# Altium footprint library JP.PcbLib: 182 footprints (part 8 of 12)
Each footprint in its own frame and in the unit in brackets; x right, y up, seen from the top. Pads: shape width x height; smd on the part's side, far side on the other; paste and mask are expansions set on the pad; w line width, h text height; cw(c..) or ccw(c..) is an arc to the next point about the centre after c.
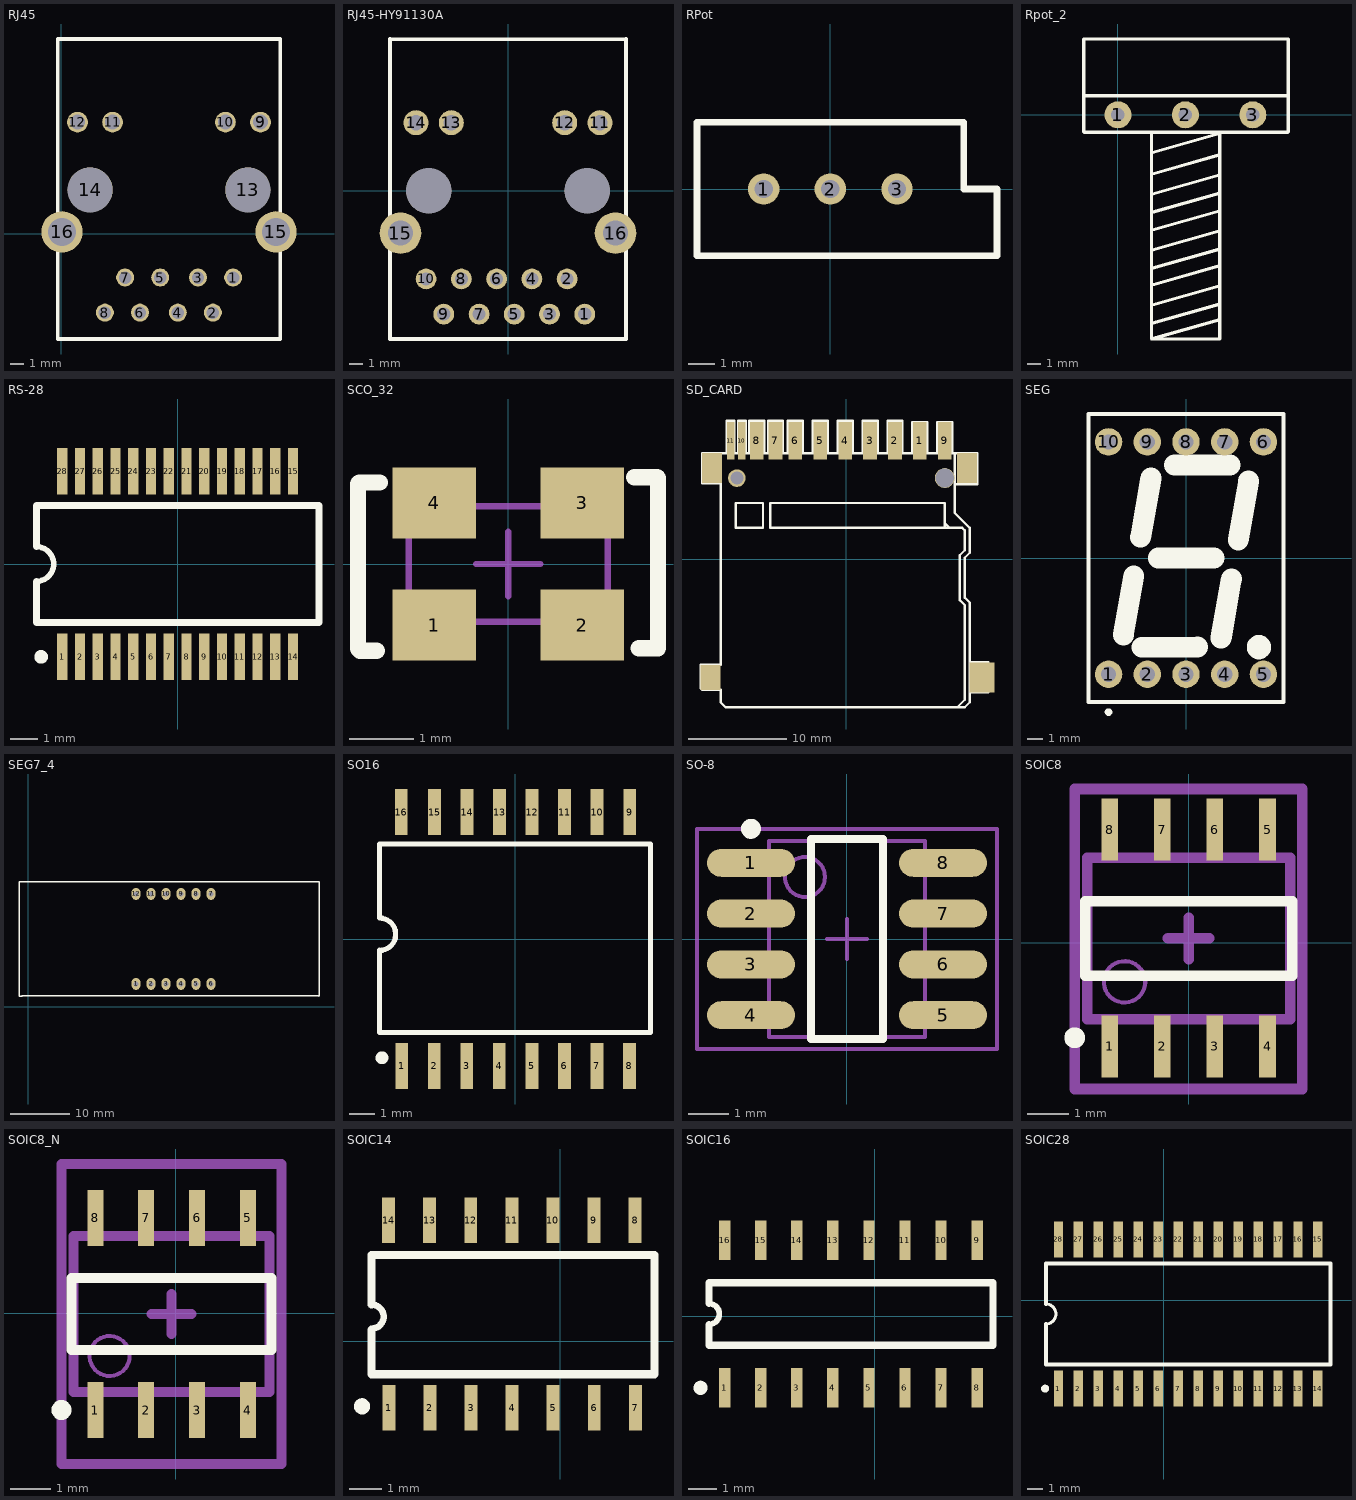
[diagram p7: the footprints below, top view; thin cyan lines are the x and y axes]

## RJ45 [mm]
pads (16):
  round 1.3 hole 0.9: 1(12.438,-3.155) 2(10.978,-5.695) 3(9.898,-3.155) 4(8.438,-5.695) 5(7.158,-3.155) 6(5.698,-5.695) 7(4.618,-3.155) 8(3.158,-5.695)
  round 1.5 hole 1.1: 9(14.423,8.095) 10(11.883,8.095) 11(3.713,8.095) 12(1.173,8.095)
  round 3.251 hole 3.251: 13(13.513,3.195) 14(2.083,3.195)
  round 3 hole 2: 15(15.543,0.145) 16(0.053,0.145)
Top Overlay:
  lines w0.254: -0.252,-7.605 -0.252,14.115 15.848,14.115 15.848,-7.605 -0.252,-7.605

## RJ45-HY91130A [mm]
pads (18):
  round 1.5 hole 0.95: 1(5.53,-8.89) 2(4.26,-6.35) 3(2.99,-8.89) 4(1.72,-6.35) 5(0.45,-8.89) 6(-0.82,-6.35) 7(-2.08,-8.89) 8(-3.36,-6.35) 9(-4.63,-8.89) 10(-5.9,-6.35)
  round 1.8 hole 1.1: 11(6.625,4.9) 12(4.085,4.9) 13(-4.085,4.9) 14(-6.625,4.9)
  round 3 hole 1.8: 15(-7.745,-3.05) 16(7.745,-3.05)
  round 3.255 hole 3.255: ""(-5.715,0) ""(5.715,0)
Top Overlay:
  lines w0.254: -8.5,10.92 8.388,10.92 ; -8.5,10.93 -8.5,-10.68 8.388,-10.68 ; 8.5,-10.68 8.5,10.93

## RPot [mm] "Potentiometer; 3 Leads"
pads (3):
  round 1.2 hole 0.7: 1(-2.54,0) 2(0,0) 3(2.54,0)
Top Overlay:
  lines w0.254: -5.08,-2.54 -5.08,2.54 5.08,2.54 5.08,0 6.35,0 6.35,-2.54 -5.08,-2.54

## Rpot_2 [mm]
pads (3):
  round 2 hole 1: 1(0,0) 2(5,0) 3(10,0)
Top Overlay:
  lines w0.25: -2.47,1.4 12.51,1.4 ; 2.53,-15.46 7.507,-14.048 ; 2.53,-11.39 7.507,-9.978 ; 2.535,-16.617 7.53,-15.2 ; 2.535,-12.617 7.53,-11.2 ; 2.535,-8.547 7.53,-7.13 ; 2.546,-14.106 7.512,-12.697 ; 2.546,-10.036 7.512,-8.627 ; 2.55,-7.23 7.527,-5.818 ; 2.555,-4.387 7.55,-2.97 ; 2.563,-2.804 7.52,-1.397 ; 2.566,-5.876 7.532,-4.467 ; 7.52,-16.63 2.51,-16.63 2.49,-16.61 2.49,-1.32 2.52,-1.29 7.55,-1.29 7.55,-16.6 ; 12.59,5.62 -2.54,5.62 -2.54,-1.26 -2.51,-1.29 12.61,-1.29 ; 12.63,-1.28 12.63,5.61

## RS-28 [mm]
pads (28):
  rect 0.38x1.7 smd: 1(-4.225,-3.4) 2(-3.575,-3.4) 3(-2.925,-3.4) 4(-2.275,-3.4) 5(-1.625,-3.4) 6(-0.975,-3.4) 7(-0.325,-3.4) 8(0.325,-3.4) 9(0.975,-3.4) 10(1.625,-3.4) 11(2.275,-3.4) 12(2.925,-3.4) 13(3.575,-3.4) 14(4.225,-3.4) 15(4.225,3.4) 16(3.575,3.4) 17(2.925,3.4) 18(2.275,3.4) 19(1.625,3.4) 20(0.975,3.4) 21(0.325,3.4) 22(-0.325,3.4) 23(-0.975,3.4) 24(-1.625,3.4) 25(-2.275,3.4) 26(-2.925,3.4) 27(-3.575,3.4) 28(-4.225,3.4)
Top Overlay:
  circle w0.25: c-5,-3.4 r0.125
  lines w0.2: -5.175,-0.635 ccw(c-5.175,0) -5.175,0.635
  lines w0.254: -5.175,-0.635 -5.175,-2.15 5.175,-2.15 5.175,2.15 -5.175,2.15 -5.175,0.635

## SCO_32 [mm]
height 2
pads (4):
  rect 1.3x1.1 smd: 1(-1.15,-0.95) 2(1.15,-0.95) 3(1.15,0.95) 4(-1.15,0.95)
Top Overlay:
  lines w0.254: -2.05,-1.35 -2.31,-1.35 -2.34,-1.32 -2.34,1.25 -2.32,1.27 -2,1.27 ; 1.96,1.35 2.32,1.35 2.33,1.34 2.33,-1.31 2.03,-1.31
Mechanical 13:
  lines w0.1: -1.55,-0.9 1.55,-0.9 1.55,0.9 -1.55,0.9 -1.55,-0.9
Mechanical 15:
  lines w0.1: -0.5,0 0.5,0 ; 0,-0.5 0,0.5
3D body: height 1.45, standoff 0, extent -1.55,-0.9 1.55,0.9

## SD_CARD [mil]
pads (17):
  rect 55x150 smd: 1(295.19,475.42) 2(195.19,475.42) 3(95.19,475.42) 4(-4.81,475.42) 5(-104.81,475.42) 6(-204.81,475.42) 7(-284.81,475.42) 8(-359.81,475.42) 9(395.19,475.42)
  rect 30x150 smd: 10(-419.81,475.42) 11(-464.81,475.42)
  rect 80x100 smd: ""(-544.81,-474.58)
  rect 80x120 smd: ""(-539.81,365.42) ""(485.19,365.42)
  round 70.87 hole 52: ""(-439.81,325.42)
  round 80 hole 75: ""(395.19,325.42)
  rect 100x120 smd: ""(544.81,-475.42)
Top Overlay:
  lines w9.84: -479.81,425.42 -479.81,555.42 -449.81,555.42 -449.81,425.42 -504.81,425.42 -579.81,425.42 -579.81,305.42 -504.81,305.42 -504.81,-424.58 -584.81,-424.58 -584.81,-519.58 -579.81,-524.58 -504.81,-524.58 -504.81,-574.58 -484.81,-594.58 -474.81,-594.58 475.19,-594.58 495.19,-574.58 495.19,-174.58 475.19,-154.58 475.19,5.42 495.19,25.42 495.19,35.42 495.19,105.42 495.19,125.42 435.19,185.42 435.19,415.42 435.19,425.42 ; -454.81,425.42 435.19,425.42 ; -434.81,425.42 -434.81,555.42 -404.81,555.42 -404.81,425.42 ; -389.81,430.42 -389.81,555.42 -329.81,555.42 -329.81,430.42 ; -354.81,125.42 -334.81,125.42 -334.81,225.42 -444.81,225.42 -444.81,125.42 -344.81,125.42 ; -314.81,430.42 -314.81,555.42 -254.81,555.42 -254.81,430.42 ; -234.81,430.42 -234.81,555.42 -174.81,555.42 -174.81,430.42 ; -134.81,430.42 -134.81,555.42 -74.81,555.42 -74.81,430.42 ; -34.81,430.42 -34.81,555.42 25.19,555.42 25.19,430.42 ; 65.19,430.42 65.19,555.42 125.19,555.42 125.19,430.42 ; 165.19,430.42 165.19,555.42 225.19,555.42 225.19,430.42 ; 265.19,425.42 265.19,550.42 325.19,550.42 325.19,425.42 ; 365.19,425.42 365.19,550.42 425.19,550.42 425.19,425.42 ; 395.19,145.42 415.19,125.42 ; 435.19,300.42 525.19,300.42 525.19,425.42 435.19,425.42 ; 445.19,-594.58 475.19,-564.58 475.19,-194.58 475.19,-184.58 455.19,-164.58 455.19,15.42 475.19,35.42 475.19,115.42 465.19,125.42 395.19,125.42 ; 495.19,-534.58 570.19,-534.58 ; 495.19,-414.58 570.19,-414.58 ; 395.19,125.42 -304.81,125.42 -304.81,225.42 395.19,225.42 395.19,135.42 395.19,125.42

## SEG [mm] "LED, 7-Segment Display, 14.2 mm, RHD; 10 Leads; Row Space 15.24 mm; Pitch 2.54 mm"
height 8.25
pads (10):
  round 1.8 hole 1: 1(-5.08,-7.62) 2(-2.54,-7.62) 3(0,-7.62) 4(2.54,-7.62) 5(5.08,-7.62) 6(5.08,7.62) 7(2.54,7.62) 8(0,7.62) 9(-2.54,7.62) 10(-5.08,7.62)
Top Overlay:
  circle w1: c4.784,-5.842 r0.296
  circle w0.25: c-5.08,-10.1 r0.125
  lines w0.254: -6.4,-9.45 6.4,-9.45 6.4,9.45 -6.4,9.45 -6.4,-9.45
  lines w1.37: -4.108,-5.054 -3.425,-1.17 ; -2.974,1.368 -2.293,5.255 ; -2.888,-5.845 0.762,-5.842 ; -1.821,0 1.828,0 ; -0.762,6.096 2.887,6.096 ; 2.295,-5.256 2.98,-1.371 ; 3.427,1.169 4.11,5.058

## SEG7_4 [mil]
height 220.08
pads (12):
  oval 59.06x78.74 hole 32: 1(720,151) 2(820,151) 3(920,151) 4(1020,151) 5(1120,151) 6(1220,151) 7(1220,751) 8(1120,751) 9(1020,751) 10(920,751) 11(820,751) 12(720,751)
Top Overlay:
  lines w9.84: -60,70 -41,70 -40,71 380,71 1500,71 1920,71 1939,71 1940,70 1940,830 1939,831 1920,831 1500,831 380,831 -40,831 -59,831 -60,830 -60,70
Top Solder:
  lines w9.84: -45,70 -45,830 ; 1920,70 1920,830

## SO16 [mm]
pads (16):
  rect 0.5x1.8 smd: 1(-4.438,-4.959) 2(-3.168,-4.959) 3(-1.898,-4.959) 4(-0.628,-4.959) 5(0.642,-4.959) 6(1.912,-4.959) 7(3.182,-4.959) 8(4.452,-4.959) 9(4.462,4.959) 10(3.192,4.959) 11(1.922,4.959) 12(0.652,4.959) 13(-0.618,4.959) 14(-1.888,4.959) 15(-3.158,4.959) 16(-4.462,4.959)
Top Overlay:
  circle w0.25: c-5.213,-4.639 r0.125
  lines w0.2: -5.308,-0.449 ccw(c-5.308,0.184) -5.308,0.818 ; -5.308,-0.439 -5.308,-3.656 5.272,-3.656 5.272,3.705 -5.248,3.705 ; -5.308,0.841 -5.308,3.705
3D body: height 1, standoff 0, extent -5.463,-4.889 5.372,3.805

## SO-8 [mm]
pads (8):
  oval 2.2x0.7 smd: 1(-2.4,1.905) 2(-2.4,0.635) 3(-2.4,-0.635) 4(-2.4,-1.905) 5(2.4,-1.905) 6(2.4,-0.635) 7(2.4,0.635) 8(2.4,1.905)
Top Overlay:
  circle w0.25: c-2.4,2.755 r0.125
  lines w0.2: -0.9,-2.5 -0.9,2.5 0.9,2.5 0.9,-2.5 -0.9,-2.5
Mechanical 13:
  circle w0.1: c-1.05,1.55 r0.5
  lines w0.1: -1.95,-2.45 -1.95,2.45 1.95,2.45 1.95,-2.45 -1.95,-2.45
Mechanical 15:
  lines w0.1: -0.5,0 0.5,0 ; 0,-0.5 0,0.5 ; -3.75,-2.75 -3.75,2.75 3.75,2.75 3.75,-2.75 -3.75,-2.75
3D body: height 1.75, standoff 0, extent -1.95,-2.45 1.95,2.45

## SOIC8 [mm]
pads (8):
  rect 0.4x1.5 smd: 1(-1.907,-2.511) 2(-0.637,-2.511) 3(0.633,-2.511) 4(1.903,-2.511) 5(1.903,2.729) 6(0.633,2.729) 7(-0.637,2.729) 8(-1.907,2.729)
Top Overlay:
  circle w0.25: c-2.757,-2.301 r0.125
  lines w0.254: -2.502,-0.801 2.498,-0.801 2.498,0.999 -2.502,0.999 -2.502,-0.801
Mechanical 13:
  circle w0.1: c-1.552,-0.951 r0.5
  lines w0.254: -2.452,-1.851 2.448,-1.851 2.448,2.049 -2.452,2.049 -2.452,-1.851
Mechanical 15:
  lines w0.254: -0.502,0.099 0.498,0.099 ; -0.002,-0.401 -0.002,0.599 ; -2.752,-3.54 2.748,-3.54 2.748,3.71 -2.752,3.71 -2.752,-3.54
3D body: height 1.75, standoff 0, extent -2.452,-1.851 2.448,2.049

## SOIC8_N [mm] "SOIC, 8-Leads, Body 4.9x3.9mm, Pitch 1.27mm, IPC Medium Density"
height 1.75
pads (8):
  rect 0.4x1.4 smd: 1(-2.005,-2.42) 2(-0.735,-2.42) 3(0.535,-2.42) 4(1.805,-2.42) 5(1.805,2.38) 6(0.535,2.38) 7(-0.735,2.38) 8(-2.005,2.38)
Top Overlay:
  circle w0.25: c-2.855,-2.42 r0.125
  lines w0.254: -2.6,-0.92 2.4,-0.92 2.4,0.88 -2.6,0.88 -2.6,-0.92
Mechanical 13:
  circle w0.1: c-1.65,-1.07 r0.5
  lines w0.254: -2.55,-1.97 2.35,-1.97 2.35,1.93 -2.55,1.93 -2.55,-1.97
Mechanical 15:
  lines w0.254: -0.6,-0.02 0.4,-0.02 ; -0.1,-0.52 -0.1,0.48 ; -2.85,-3.77 2.65,-3.77 2.65,3.73 -2.85,3.73 -2.85,-3.77
3D body: height 1.75, standoff 0, extent -2.55,-1.97 2.35,1.93

## SOIC14 [mm]
pads (14):
  rect 0.4x1.4 smd: 1(-5.3,-2.059) 2(-4.03,-2.059) 3(-2.76,-2.059) 4(-1.49,-2.059) 5(-0.22,-2.059) 6(1.05,-2.059) 7(2.32,-2.059) 8(2.31,3.73) 9(1.04,3.73) 10(-0.23,3.73) 11(-1.5,3.73) 12(-2.77,3.73) 13(-4.04,3.73) 14(-5.31,3.73)
Top Overlay:
  circle w0.25: c-6.13,-2.019 r0.125
  lines w0.2: -5.83,0.387 ccw(c-5.83,0.753) -5.83,1.12
  lines w0.254: -5.835,0.35 -5.835,-1.029 2.91,-1.029 2.91,2.66 -5.835,2.66 -5.835,1.13
3D body: height 0, standoff 0, extent -6.265,-2.154 -5.995,-1.884
3D body: height 1, standoff 0, extent -6.38,-2.269 3.037,2.787

## SOIC16 [mm]
pads (16):
  rect 0.4x1.4 smd: 1(-5.28,-2.529) 2(-4.01,-2.529) 3(-2.74,-2.529) 4(-1.47,-2.529) 5(-0.2,-2.529) 6(1.07,-2.529) 7(2.34,-2.529) 8(3.61,-2.529) 9(3.61,2.671) 10(2.34,2.671) 11(1.07,2.671) 12(-0.2,2.671) 13(-1.47,2.671) 14(-2.74,2.671) 15(-4.01,2.671) 16(-5.28,2.671)
Top Overlay:
  circle w0.25: c-6.13,-2.529 r0.125
  lines w0.2: -5.835,-0.296 ccw(c-5.835,0.071) -5.835,0.438
  lines w0.254: -5.835,-0.296 -5.835,-1.029 4.165,-1.029 4.165,1.171 -5.835,1.171 -5.835,0.438
3D body: height 1, standoff 0, extent -5.836,-1.03 4.165,1.172

## SOIC28 [mm]
pads (28):
  rect 0.6x2.3 smd: 1(-6.714,-5.635) 2(-5.444,-5.635) 3(-4.174,-5.635) 4(-2.904,-5.635) 5(-1.634,-5.635) 6(-0.364,-5.635) 7(0.906,-5.635) 8(2.176,-5.635) 9(3.446,-5.635) 10(4.716,-5.635) 11(5.986,-5.635) 12(7.256,-5.635) 13(8.526,-5.635) 14(9.796,-5.635) 15(9.796,3.865) 16(8.526,3.865) 17(7.256,3.865) 18(5.986,3.865) 19(4.716,3.865) 20(3.446,3.865) 21(2.176,3.865) 22(0.906,3.865) 23(-0.364,3.865) 24(-1.634,3.865) 25(-2.904,3.865) 26(-4.174,3.865) 27(-5.444,3.865) 28(-6.714,3.865)
Top Overlay:
  circle w0.25: c-7.564,-5.635 r0.125
  lines w0.2: -7.509,-1.52 ccw(c-7.509,-0.885) -7.509,-0.25
  lines w0.254: -7.509,-1.52 -7.509,-4.085 10.591,-4.085 10.591,2.315 -7.509,2.315 -7.509,-0.25
3D body: height 1, standoff 0, extent -7.51,-4.085 10.592,2.316